# Altium footprint library PAL.PcbLib: 183 footprints (part 1 of 12)
Each footprint in its own frame and in the unit in brackets; x right, y up, seen from the top. Pads: shape width x height; smd on the part's side, far side on the other; paste and mask are expansions set on the pad; w line width, h text height; cw(c..) or ccw(c..) is an arc to the next point about the centre after c.
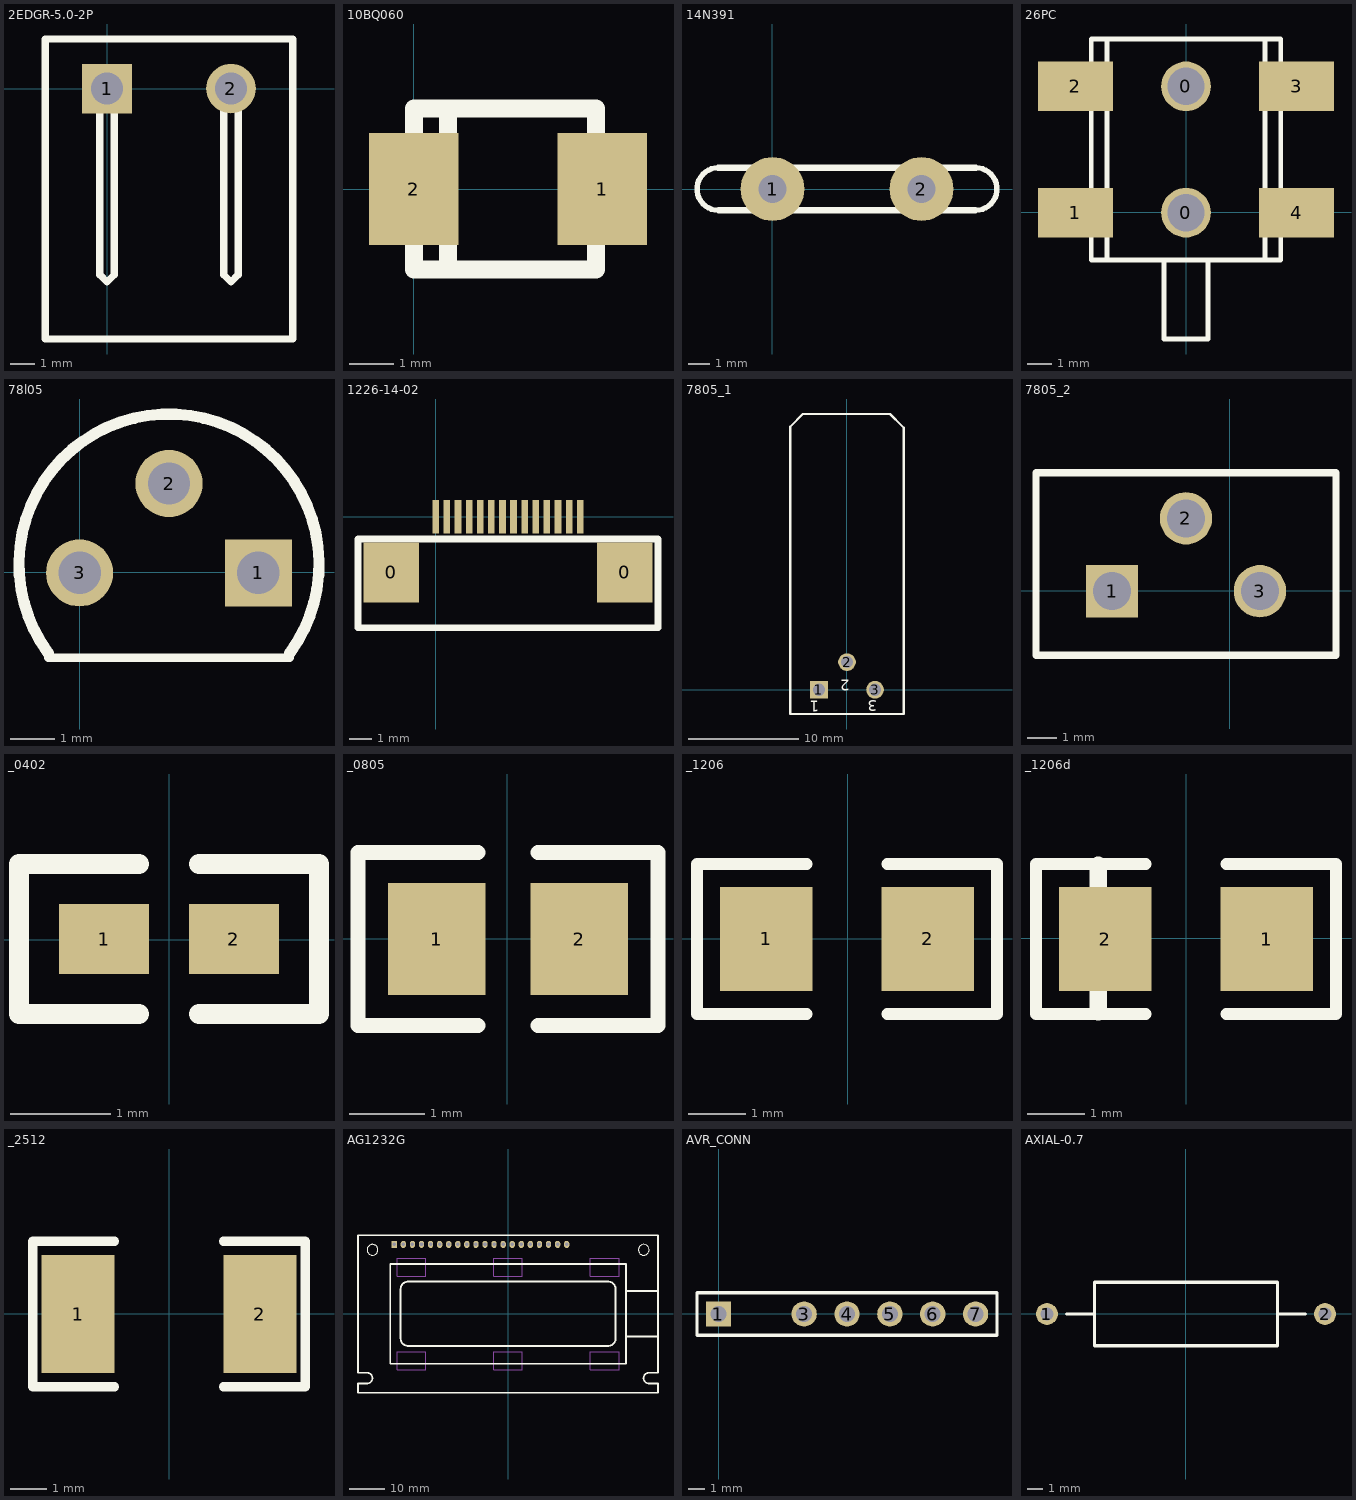
[diagram p0: the footprints below, top view; thin cyan lines are the x and y axes]

## 2EDGR-5.0-2P [mm] "2EDGR-5.0-2P"
pads (2):
  rect 2x2 hole 1.3: 1(0,0)
  round 2 hole 1.3: 2(5,0)
Top Overlay:
  lines w0.3: -2.5,-10.1 -2.5,2 7.5,2 7.5,-10.1 -2.5,-10.1 ; -0.3,-7.5 0,-7.8 0.3,-7.5 0.3,0 0,0 -0.3,0 -0.3,-7.5 ; 4.7,-7.5 5,-7.8 5.3,-7.5 5.3,0 5,0 4.7,0 4.7,-7.5

## 10BQ060 [mm]
pads (2):
  rect 2x2.5 smd: 1(4.2,0) 2(0,0)
Top Overlay:
  lines w0.4: 0.762,-1.8 0.762,1.8 ; 0,-1.8 4.064,-1.8 4.064,1.8 0,1.8 0,-1.8

## 14N391 [mm]
pads (2):
  round 3 hole 1.3: 1(0.003,0.002) 2(7.003,0.002)
Top Overlay:
  lines w0.254: -2.547,-0.999 cw(c-2.547,0.002) -2.547,1.002 ; 9.553,-0.999 ccw(c9.553,0.002) 9.553,1.002
  lines w0.3: -2.547,1.002 3.502,1.002 9.553,1.002 ; -2.522,-0.998 3.503,-0.998 9.528,-0.998

## 26PC [mm]
pads (6):
  round 2 hole 1.5: 0(-0.012,-0.01) 0(-0.012,5.07)
  rect 3x2 smd: 1(-4.457,-0.01) 2(-4.457,5.07) 3(4.433,5.07) 4(4.433,-0.01)
Top Overlay:
  lines w0.2: -3.187,-1.915 -3.187,6.975 ; -0.901,-1.915 -0.901,-5.09 0.877,-5.09 0.877,-1.915 ; 3.163,-1.915 3.163,6.975 ; -3.822,-1.915 3.798,-1.915 3.798,6.975 -3.822,6.975 -3.822,-1.915

## 78l05 [mm]
pads (3):
  rect 1.5x1.5 hole 0.95: 1(3.994,-0.012)
  round 1.5 hole 0.95: 2(1.994,1.988) 3(-0.006,-0.012)
Top Overlay:
  lines w0.2: -0.701,-1.908 4.689,-1.908
  lines w0.254: -0.701,-1.808 cw(c1.994,0.188) 4.689,-1.808

## 1226-14-02 [mm]
pads (16):
  rect 2.5x2.7 smd: 0(-2,-2.5) 0(8.5,-2.5)
  rect 0.3x1.5 smd: 1(0,0) 2(0.5,0) 3(1,0) 4(1.5,0) 5(2,0) 6(2.5,0) 7(3,0) 8(3.5,0) 9(4,0) 10(4.5,0) 11(5,0) 12(5.5,0) 13(6,0) 14(6.5,0)
Top Overlay:
  lines w0.3: -3.5,-5 -3.5,-1 10,-1 10,-5 -3.5,-5

## 7805_1 [mm]
pads (3):
  rect 1.6x1.6 hole 1.1: 1(-2.538,-0.011)
  round 1.6 hole 1.1: 2(0.002,2.489) 3(2.542,-0.011)
Top Overlay:
  lines w0.2: 5.152,2.489 5.152,23.739 5.002,23.889 3.902,24.989 -3.998,24.989 -5.148,23.839 -5.148,2.689 -5.148,-2.211 5.152,-2.211 5.152,2.689
  text "3" at 2.752,-0.961 h1
  text "2" at 0.252,0.889 h1
  text "1" at -2.498,-1.011 h1

## 7805_2 [mm]
pads (3):
  rect 1.8x1.8 hole 1.3: 1(-4.042,-0.011)
  round 1.8 hole 1.3: 2(-1.502,2.489) 3(1.038,-0.011)
Top Overlay:
  lines w0.2: -6.652,2.689 -6.652,-2.211 3.648,-2.211 3.648,2.689
  lines w0.254: -6.652,-2.211 3.648,-2.211 3.648,4.053 -6.652,4.053 -6.652,-2.211 ; -6.652,-2.211 -6.652,-2.211

## _0402 [mm]
pads (2):
  rect 0.9x0.7 smd: 1(-0.651,0.007) 2(0.649,0.007)
Top Overlay:
  lines w0.2: -0.301,-0.743 -1.501,-0.743 -1.501,0.757 -0.301,0.757 ; 0.299,-0.743 1.499,-0.743 1.499,0.757 0.299,0.757

## _0805 [mm]
pads (2):
  rect 1.3x1.5 smd: 1(-0.942,-0.005) 2(0.958,-0.005)
Top Overlay:
  lines w0.2: -0.392,-1.155 -1.992,-1.155 -1.992,1.145 -0.392,1.145 ; 0.408,-1.155 2.008,-1.155 2.008,1.145 0.408,1.145

## _1206 [mm]
pads (2):
  rect 1.6x1.8 smd: 1(-1.412,-0.007) 2(1.388,-0.007)
Top Overlay:
  lines w0.2: -0.712,-1.307 -2.612,-1.307 -2.612,1.293 -0.712,1.293 ; 0.688,-1.307 2.588,-1.307 2.588,1.293 0.688,1.293

## _1206d [mm]
pads (2):
  rect 1.6x1.8 smd: 1(1.395,-0.009) 2(-1.405,-0.009)
Top Overlay:
  lines w0.2: -0.705,-1.309 -2.605,-1.309 -2.605,1.291 -0.705,1.291 ; 0.695,-1.309 2.595,-1.309 2.595,1.291 0.695,1.291
  lines w0.3: -1.524,-1.27 -1.524,1.27

## _2512 [mm]
pads (2):
  rect 2x3.25 smd: 1(-2.501,-0.008) 2(2.499,-0.008)
Top Overlay:
  lines w0.254: -1.501,-2.008 -3.751,-2.008 -3.751,1.992 -1.501,1.992 ; 1.499,-2.008 3.749,-2.008 3.749,1.992 1.499,1.992

## AG1232G [mm]
pads (20):
  rect 1.5x2 hole 1: 1(-31.872,19.422)
  oval 1.5x2 hole 1: 2(-29.332,19.422) 3(-26.792,19.422) 4(-24.252,19.422) 5(-21.712,19.422) 6(-19.172,19.422) 7(-16.632,19.422) 8(-14.092,19.422) 9(-11.552,19.422) 10(-9.012,19.422) 11(-6.472,19.422) 12(-3.932,19.422) 13(-1.392,19.422) 14(1.148,19.422) 15(3.688,19.422) 16(6.228,19.422) 17(8.768,19.422) 18(11.308,19.422) 19(13.848,19.422) 20(16.388,19.422)
Top Overlay:
  circle w0.254: c-37.968,17.898 r1.5
  circle w0.254: c37.978,17.898 r1.5
  circle w0.5: c-27.935,-9.026 r0
  lines w0.48: -39.492,-19.543 ccw(c-39.492,-18.043) -39.492,-16.543 ; 39.428,-19.543 cw(c39.428,-18.043) 39.428,-16.543
  lines w0.5: -42.008,-19.543 -42.032,-19.567 ; -39.516,-19.567 -42.032,-19.567 ; -39.492,-16.543 -42.008,-16.543 -42.032,-16.519 -42.032,21.962 41.915,21.962 41.968,21.909 ; 33.025,-6.359 41.968,-6.359 ; 33.025,6.341 41.968,6.341 ; 39.428,-16.543 41.944,-16.543 ; 39.452,-19.567 41.968,-19.567 41.968,-22.107 -42.032,-22.107 -42.032,-19.567 ; 41.968,-16.519 41.968,21.962 ; -33.015,-13.979 0.005,-13.979 33.025,-13.979 33.025,-0.009 33.025,13.961 0.005,13.961 -33.015,13.961 -33.015,-0.009 -33.015,-13.979 ; -30.094,-6.994 ccw(c-27.998,-6.93) -27.935,-9.026 0.005,-9.026 27.945,-9.026 ccw(c28.009,-6.93) 30.104,-6.994 30.104,-0.009 30.104,6.976 ccw(c28.009,6.913) 27.945,9.008 0.005,9.008 -27.935,9.008 ccw(c-27.998,6.913) -30.094,6.976 -30.094,-0.009 -30.094,-6.994
Mechanical 1:
  lines w0.3: -3.993,10.537 -3.993,15.537 ; -3.993,10.537 4.007,10.537 ; -3.993,10.537 -3.993,15.537 ; -3.993,10.537 4.007,10.537 ; -3.993,15.537 4.007,15.537 ; -3.993,15.537 4.007,15.537 ; 4.007,10.537 4.007,15.537 ; 4.007,10.537 4.007,15.537 ; -31.044,-15.625 -31.044,-10.625 -23.044,-10.625 -23.044,-15.625 -31.044,-15.625 ; -31.044,10.537 -31.044,15.537 -23.044,15.537 -23.044,10.537 -31.044,10.537 ; -3.993,-15.625 -3.993,-10.625 4.007,-10.625 4.007,-15.625 -3.993,-15.625 ; 23.058,-15.625 23.058,-10.625 31.058,-10.625 31.058,-15.625 23.058,-15.625 ; 23.058,10.537 23.058,15.537 31.058,15.537 31.058,10.537 23.058,10.537

## AVR_CONN [mm]
pads (6):
  rect 1.5x1.5 hole 0.95: 1(-0.007,-0.001)
  round 1.5 hole 0.95: 3(5.073,-0.001) 4(7.613,-0.001) 5(10.153,-0.001) 6(12.693,-0.001) 7(15.233,-0.001)
Top Overlay:
  lines w0.2: -1.277,-1.271 16.503,-1.271 16.503,1.269 -1.277,1.269 -1.277,-1.271

## AXIAL-0.7 [mm]
pads (2):
  round 1.4 hole 0.85: 1(-8.887,-0.008) 2(8.893,-0.008)
Top Overlay:
  lines w0.2: -7.617,-0.008 -5.839,-0.008 ; 5.845,-0.008 7.623,-0.008 ; -5.839,-2.04 -5.839,2.024 5.845,2.024 5.845,-2.04 -5.839,-2.04